# Altium schematic symbol library TS30013-M033QFNR.SchLib: 1 symbol
Pins are listed as number, name and electrical type; pins without a type are passive.

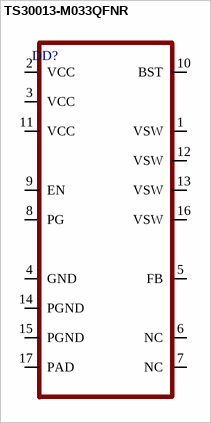
[diagram p0: symbol TS30013-M033QFNR]

## TS30013-M033QFNR
designator DD?
pins: 1 VSW, 2 VCC, 3 VCC, 4 GND, 5 FB, 6 NC, 7 NC, 8 PG, 9 EN, 10 BST, 11 VCC, 12 VSW, 13 VSW, 14 PGND, 15 PGND, 16 VSW, 17 PAD